# EAGLE library part TEXAS-INSTRUMENTS_BY_ELEMENT14_BATCH_1_TPS72018DRVR (library videobrick_alpha4_eagle_footprints)
350mA, Ultra-Low VIN, RF Low-Dropout Linear Regulator with Bias Pin
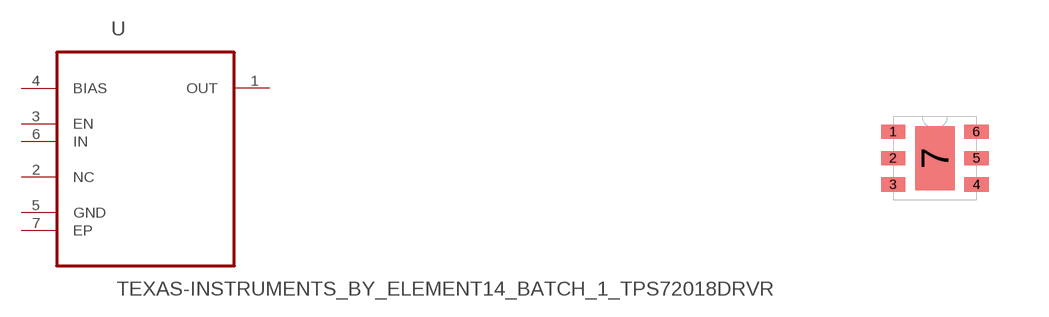
[diagram p3: symbol with the pads of TEXAS-INSTRUMENTS_BY_ELEMENT14_BATCH_1_SON65P200X200X80-7N; footprint TEXAS-INSTRUMENTS_BY_ELEMENT14_BATCH_1_SON65P200X200X80-7N]

Designator prefix U

## TEXAS-INSTRUMENTS_BY_ELEMENT14_BATCH_1_TPS72018DRVR (MPN: TPS72018DRVR; OC_FARNELL: -; OC_NEWARK: 69R0453; PACKAGE: SON-6; SUPPLIER: Texas Instruments)  [TEXAS-INSTRUMENTS_BY_ELEMENT14_BATCH_1_SON65P200X200X80-7N]
1  OUT  out
2  NC  nc
3  EN  in
4  BIAS  pwr
5  GND  pas
6  IN  in
7  EP  pas

## Footprint TEXAS-INSTRUMENTS_BY_ELEMENT14_BATCH_1_SON65P200X200X80-7N (pad centres in mm)
smd 0.61 x 0.356: 1 -1.041,0.66; 2 -1.041,0; 3 -1.041,-0.66; 4 1.041,-0.66; 5 1.041,0; 6 1.041,0.66
smd 0.991 x 1.6: 7 0,0